# Altium footprint library inductor-neosid.PCBLIB: 99 footprints (part 5 of 7)
Each footprint in its own frame and in the unit in brackets; x right, y up, seen from the top. Pads: shape width x height; smd on the part's side, far side on the other; paste and mask are expansions set on the pad; w line width, h text height; cw(c..) or ccw(c..) is an arc to the next point about the centre after c.
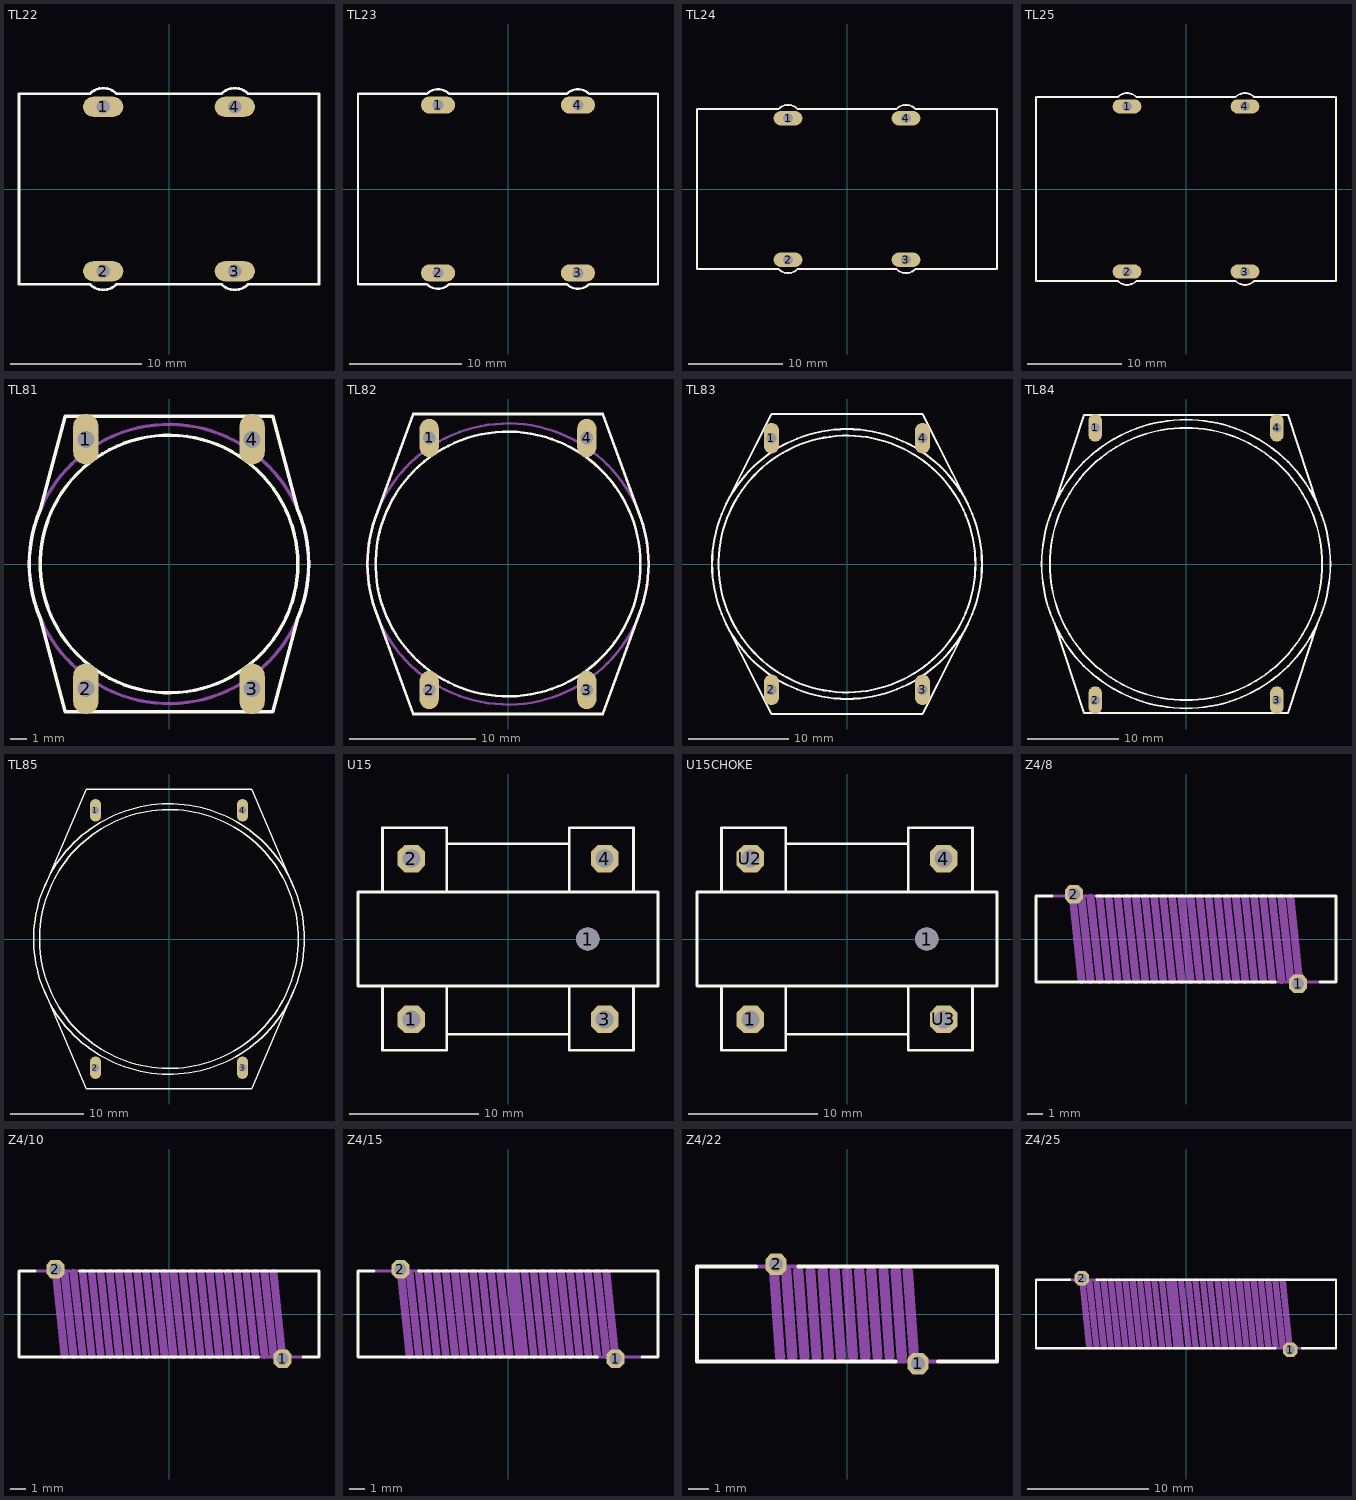
[diagram p4: the footprints below, top view; thin cyan lines are the x and y axes]

## TL22 [mil]
pads (4):
  oval 120x60 hole 40: 1(-196.85,246.06) 2(-196.85,-246.06) 3(196.85,-246.06) 4(196.85,246.06)
Top Overlay:
  lines w8: -448.82,-285.43 -448.82,285.43 ; -442.91,-285.43 -236.22,-285.43 ccw(c-196.85,-246.06) -157.48,-285.43 157.48,-285.43 ccw(c196.85,-246.06) 236.22,-285.43 442.91,-285.43 ; -442.91,285.43 -236.22,285.43 cw(c-196.85,246.06) -157.48,285.43 157.48,285.43 cw(c196.85,246.06) 236.22,285.43 442.91,285.43 ; 448.82,-285.43 448.82,285.43

## TL23 [mil]
pads (4):
  oval 120x60 hole 40: 1(-246.06,295.28) 2(-246.06,-295.28) 3(246.06,-295.28) 4(246.06,295.28)
Top Overlay:
  lines w8: -527.56,-334.65 -527.56,334.65 ; -521.65,-334.65 -285.43,-334.65 ccw(c-246.06,-295.28) -206.69,-334.65 206.69,-334.65 ccw(c246.06,-295.28) 285.43,-334.65 521.65,-334.65 ; -521.65,334.65 -285.43,334.65 cw(c-246.06,295.28) -206.69,334.65 206.69,334.65 cw(c246.06,295.28) 285.43,334.65 521.65,334.65 ; 527.56,-334.65 527.56,334.65

## TL24 [mil]
pads (4):
  oval 120x60 hole 40: 1(-246.06,295.28) 2(-246.06,-295.28) 3(246.06,-295.28) 4(246.06,295.28)
Top Overlay:
  lines w8: -625.98,-334.65 -625.98,334.65 ; -620.08,-334.65 -285.43,-334.65 ccw(c-246.06,-295.28) -206.69,-334.65 206.69,-334.65 ccw(c246.06,-295.28) 285.43,-334.65 620.08,-334.65 ; -620.08,334.65 -285.43,334.65 cw(c-246.06,295.28) -206.69,334.65 206.69,334.65 cw(c246.06,295.28) 285.43,334.65 620.08,334.65 ; 625.98,-334.65 625.98,334.65

## TL25 [mil]
pads (4):
  oval 120x60 hole 40: 1(-246.06,344.49) 2(-246.06,-344.49) 3(246.06,-344.49) 4(246.06,344.49)
Top Overlay:
  lines w8: -625.98,-383.86 -625.98,383.86 ; -620.08,-383.86 -285.43,-383.86 ccw(c-246.06,-344.49) -206.69,-383.86 206.69,-383.86 ccw(c246.06,-344.49) 285.43,-383.86 620.08,-383.86 ; -620.08,383.86 -285.43,383.86 cw(c-246.06,344.49) -206.69,383.86 206.69,383.86 cw(c246.06,344.49) 285.43,383.86 620.08,383.86 ; 625.98,-383.86 625.98,383.86

## TL81 [mil]
pads (4):
  oval 60x120 hole 40: 1(-196.85,295.28) 2(-196.85,-295.28) 3(196.85,-295.28) 4(196.85,295.28)
Top Overlay:
  circle w8: c0,0 r305.12
  lines w8: -305.12,-127.95 -246.06,-350.39 246.06,-350.39 305.12,-127.95 ccw(c0.01,0) 305.12,127.95 246.06,350.39 -246.06,350.39 -305.12,127.95 ccw(c-0.01,0) -305.12,-127.95
Mechanical 16:
  circle w8: c0,0 r330.71

## TL82 [mil]
pads (4):
  oval 60x120 hole 40: 1(-246.06,393.7) 2(-246.06,-393.7) 3(246.06,-393.7) 4(246.06,393.7)
Top Overlay:
  circle w8: c0,0 r413.39
  lines w8: -413.39,-147.64 -295.28,-468.5 295.28,-468.5 413.39,-147.64 ccw(c0,0) 413.39,147.64 295.28,468.5 -295.28,468.5 -413.39,147.64 ccw(c0,0) -413.39,-147.64
Mechanical 16:
  circle w8: c0,0 r438.98

## TL83 [mil]
pads (4):
  oval 60x120 hole 40: 1(-295.28,492.13) 2(-295.28,-492.13) 3(295.28,-492.13) 4(295.28,492.13)
Top Overlay:
  circle w8: c0,0 r527.56
  circle w8: c0,0 r502.06
  lines w8: -472.44,-236.22 -295.28,-586.61 295.28,-586.61 472.44,-236.22 ; -472.44,236.22 -295.28,586.61 295.28,586.61 472.44,236.22

## TL84 [mil]
pads (4):
  oval 60x120 hole 40: 1(-393.7,590.55) 2(-393.7,-590.55) 3(393.7,-590.55) 4(393.7,590.55)
Top Overlay:
  circle w8: c0,0 r625.98
  circle w8: c0,0 r590.55
  lines w8: -570.87,-255.91 -442.91,-645.67 442.91,-645.67 570.87,-255.91 ; -570.87,255.91 -442.91,645.67 442.91,645.67 570.87,255.91

## TL85 [mil]
pads (4):
  oval 60x120 hole 40: 1(-393.7,688.98) 2(-393.7,-688.98) 3(393.7,-688.98) 4(393.7,688.98)
Top Overlay:
  circle w8: c0,0 r724.41
  circle w8: c0,0 r692.91
  lines w8: -669.29,-275.59 -442.91,-803.15 442.91,-803.15 669.29,-275.59 ; -669.29,275.59 -442.91,803.15 442.91,803.15 669.29,275.59

## U15 [mil]
pads (5):
  oct 84x84 hole 56: 1(-295.28,-246.06) 2(-295.28,246.06) 3(295.28,-246.06) 4(295.28,246.06)
  round 70.87 hole 70.87: 1(244.09,0)
Top Overlay:
  lines w8: -383.86,-143.7 -383.86,-340.55 -187.01,-340.55 -187.01,-291.34 ; -383.86,-143.7 -458.66,-143.7 -458.66,143.7 -383.86,143.7 ; -383.86,-143.7 -187.01,-143.7 ; -383.86,143.7 -383.86,340.55 -187.01,340.55 -187.01,291.34 ; -383.86,143.7 -187.01,143.7 ; -187.01,-291.34 -187.01,-143.7 ; -187.01,-291.34 187.01,-291.34 ; -187.01,-143.7 187.01,-143.7 ; -187.01,143.7 -187.01,291.34 ; -187.01,143.7 187.01,143.7 ; -187.01,291.34 187.01,291.34 ; 187.01,-291.34 187.01,-340.55 383.86,-340.55 383.86,-143.7 ; 187.01,-291.34 187.01,-143.7 ; 187.01,-143.7 383.86,-143.7 ; 187.01,143.7 383.86,143.7 ; 187.01,143.7 187.01,291.34 ; 187.01,291.34 187.01,340.55 383.86,340.55 383.86,143.7 ; 383.86,-143.7 458.66,-143.7 458.66,143.7 383.86,143.7

## U15CHOKE [mil]
pads (5):
  oct 84x84 hole 56: 1(-295.28,-246.06) 4(295.28,246.06) U2(-295.28,246.06) U3(295.28,-246.06)
  round 70.87 hole 70.87: 1(244.09,0)
Top Overlay:
  lines w8: -383.86,-143.7 -383.86,-340.55 -187.01,-340.55 -187.01,-291.34 ; -383.86,-143.7 -458.66,-143.7 -458.66,143.7 -383.86,143.7 ; -383.86,-143.7 -187.01,-143.7 ; -383.86,143.7 -383.86,340.55 -187.01,340.55 -187.01,291.34 ; -383.86,143.7 -187.01,143.7 ; -187.01,-291.34 -187.01,-143.7 ; -187.01,-291.34 187.01,-291.34 ; -187.01,-143.7 187.01,-143.7 ; -187.01,143.7 -187.01,291.34 ; -187.01,143.7 187.01,143.7 ; -187.01,291.34 187.01,291.34 ; 187.01,-291.34 187.01,-340.55 383.86,-340.55 383.86,-143.7 ; 187.01,-291.34 187.01,-143.7 ; 187.01,-143.7 383.86,-143.7 ; 187.01,143.7 383.86,143.7 ; 187.01,143.7 187.01,291.34 ; 187.01,291.34 187.01,340.55 383.86,340.55 383.86,143.7 ; 383.86,-143.7 458.66,-143.7 458.66,143.7 383.86,143.7

## Z4/8 [mil]
pads (2):
  oct 47.25x47.25 hole 31.5: 1(291.34,-116.14) 2(-291.34,116.14)
Top Overlay:
  lines w8: -348.43,112.2 -389.76,112.2 -389.76,-112.2 232.28,-112.2 ; -232.28,112.2 389.76,112.2 389.76,-112.2 348.43,-112.2
Mechanical 16:
  lines w8: -348.43,112.2 -232.28,112.2 ; 232.28,-112.2 348.43,-112.2
  lines w20: -295.28,118.11 -271.65,-106.3 ; -271.65,106.3 -248.03,-106.3 ; -248.03,106.3 -224.41,-106.3 ; -224.41,106.3 -200.79,-106.3 ; -200.79,106.3 -177.17,-106.3 ; -177.17,106.3 -153.54,-106.3 ; -153.54,106.3 -129.92,-106.3 ; -129.92,106.3 -106.3,-106.3 ; -106.3,106.3 -82.68,-106.3 ; -82.68,106.3 -59.06,-106.3 ; -59.06,106.3 -35.43,-106.3 ; -35.43,106.3 -11.81,-106.3 ; -11.81,106.3 11.81,-106.3 ; 11.81,106.3 35.43,-106.3 ; 35.43,106.3 59.06,-106.3 ; 59.06,106.3 82.68,-106.3 ; 82.68,106.3 106.3,-106.3 ; 106.3,106.3 129.92,-106.3 ; 129.92,106.3 153.54,-106.3 ; 153.54,106.3 177.17,-106.3 ; 177.17,106.3 200.79,-106.3 ; 200.79,106.3 224.41,-106.3 ; 224.41,106.3 248.03,-106.3 ; 248.03,106.3 271.65,-106.3 ; 271.65,106.3 295.28,-118.11

## Z4/10 [mil]
pads (2):
  oct 47.25x47.25 hole 31.5: 1(295.28,-116.14) 2(-295.28,116.14)
Top Overlay:
  lines w8: -348.43,112.2 -389.76,112.2 -389.76,-112.2 232.28,-112.2 ; -232.28,112.2 389.76,112.2 389.76,-112.2 348.43,-112.2
Mechanical 16:
  lines w8: -348.43,112.2 -232.28,112.2 ; 232.28,-112.2 348.43,-112.2
  lines w20: -295.28,118.11 -271.65,-106.3 ; -271.65,106.3 -248.03,-106.3 ; -248.03,106.3 -224.41,-106.3 ; -224.41,106.3 -200.79,-106.3 ; -200.79,106.3 -177.17,-106.3 ; -177.17,106.3 -153.54,-106.3 ; -153.54,106.3 -129.92,-106.3 ; -129.92,106.3 -106.3,-106.3 ; -106.3,106.3 -82.68,-106.3 ; -82.68,106.3 -59.06,-106.3 ; -59.06,106.3 -35.43,-106.3 ; -35.43,106.3 -11.81,-106.3 ; -11.81,106.3 11.81,-106.3 ; 11.81,106.3 35.43,-106.3 ; 35.43,106.3 59.06,-106.3 ; 59.06,106.3 82.68,-106.3 ; 82.68,106.3 106.3,-106.3 ; 106.3,106.3 129.92,-106.3 ; 129.92,106.3 153.54,-106.3 ; 153.54,106.3 177.17,-106.3 ; 177.17,106.3 200.79,-106.3 ; 200.79,106.3 224.41,-106.3 ; 224.41,106.3 248.03,-106.3 ; 248.03,106.3 271.65,-106.3 ; 271.65,106.3 295.28,-118.11

## Z4/15 [mil]
pads (2):
  oct 47.25x47.25 hole 31.5: 1(279.53,-116.14) 2(-279.53,116.14)
Top Overlay:
  lines w8: -348.43,112.2 -389.76,112.2 -389.76,-112.2 232.28,-112.2 ; -232.28,112.2 389.76,112.2 389.76,-112.2 348.43,-112.2
Mechanical 16:
  lines w8: -348.43,112.2 -232.28,112.2 ; 232.28,-112.2 348.43,-112.2
  lines w20: -279.53,118.11 -255.91,-106.3 ; -255.91,106.3 -232.28,-106.3 ; -232.28,106.3 -208.66,-106.3 ; -208.66,106.3 -185.04,-106.3 ; -185.04,106.3 -161.42,-106.3 ; -161.42,106.3 -137.8,-106.3 ; -137.8,106.3 -114.17,-106.3 ; -114.17,106.3 -90.55,-106.3 ; -90.55,106.3 -66.93,-106.3 ; -66.93,106.3 -43.31,-106.3 ; -43.31,106.3 -19.69,-106.3 ; -19.69,106.3 3.94,-106.3 ; 3.94,106.3 27.56,-106.3 ; 19.69,106.3 43.31,-106.3 ; 43.31,106.3 66.93,-106.3 ; 66.93,106.3 90.55,-106.3 ; 90.55,106.3 114.17,-106.3 ; 114.17,106.3 137.8,-106.3 ; 137.8,106.3 161.42,-106.3 ; 161.42,106.3 185.04,-106.3 ; 185.04,106.3 208.66,-106.3 ; 208.66,106.3 232.28,-106.3 ; 232.28,106.3 255.91,-106.3 ; 255.91,106.3 279.53,-118.11

## Z4/22 [mm]
pads (2):
  oct 1.05x1.05 hole 0.7: 1(3.5,-2.45) 2(-3.5,2.45)
Top Overlay:
  lines w0.203: -4.5,2.35 -7.4,2.35 -7.4,-2.35 2.4,-2.35 ; -2.4,2.35 7.4,2.35 7.4,-2.35 4.5,-2.35
Mechanical 16:
  lines w0.203: -4.5,2.35 -2.4,2.35 ; 2.4,-2.35 4.5,-2.35
  lines w0.508: -3.6,2.1 -3.3,-2.1 ; -3,2.1 -2.7,-2.1 ; -2.4,2.1 -2.1,-2.1 ; -1.8,2.1 -1.5,-2.1 ; -1.2,2.1 -0.9,-2.1 ; -0.6,2.1 -0.3,-2.1 ; 0,2.1 0.3,-2.1 ; 0.6,2.1 0.9,-2.1 ; 1.2,2.1 1.5,-2.1 ; 1.8,2.1 2.1,-2.1 ; 2.4,2.1 2.7,-2.1 ; 3,2.1 3.3,-2.1

## Z4/25 [mil]
pads (2):
  oct 47.25x47.25 hole 31.5: 1(338.58,-116.14) 2(-338.58,116.14)
Top Overlay:
  lines w8: -377.95,112.2 -488.19,112.2 -488.19,-112.2 291.34,-112.2 ; -291.34,112.2 488.19,112.2 488.19,-112.2 377.95,-112.2
Mechanical 16:
  lines w8: -383.86,112.2 -291.34,112.2 ; 291.34,-112.2 383.86,-112.2
  lines w20: -338.58,118.11 -314.96,-106.3 ; -314.96,106.3 -291.34,-106.3 ; -291.34,106.3 -267.72,-106.3 ; -267.72,106.3 -244.09,-106.3 ; -244.09,106.3 -220.47,-106.3 ; -220.47,106.3 -196.85,-106.3 ; -196.85,106.3 -173.23,-106.3 ; -173.23,106.3 -149.61,-106.3 ; -149.61,106.3 -125.98,-106.3 ; -125.98,106.3 -102.36,-106.3 ; -102.36,106.3 -78.74,-106.3 ; -78.74,106.3 -55.12,-106.3 ; -55.12,106.3 -31.5,-106.3 ; -39.37,106.3 -15.75,-106.3 ; -15.75,106.3 7.87,-106.3 ; 7.87,106.3 31.5,-106.3 ; 31.5,106.3 55.12,-106.3 ; 55.12,106.3 78.74,-106.3 ; 78.74,106.3 102.36,-106.3 ; 102.36,106.3 125.98,-106.3 ; 125.98,106.3 149.61,-106.3 ; 149.61,106.3 173.23,-106.3 ; 173.23,106.3 196.85,-106.3 ; 196.85,106.3 220.47,-106.3 ; 220.47,106.3 244.09,-106.3 ; 244.09,106.3 267.72,-106.3 ; 267.72,106.3 291.34,-106.3 ; 291.34,106.3 314.96,-106.3 ; 314.96,106.3 338.58,-118.11